# Altium schematic symbol library Capacitors.SchLib: 24 symbols
Pins are listed as number, name and electrical type; pins without a type are passive.

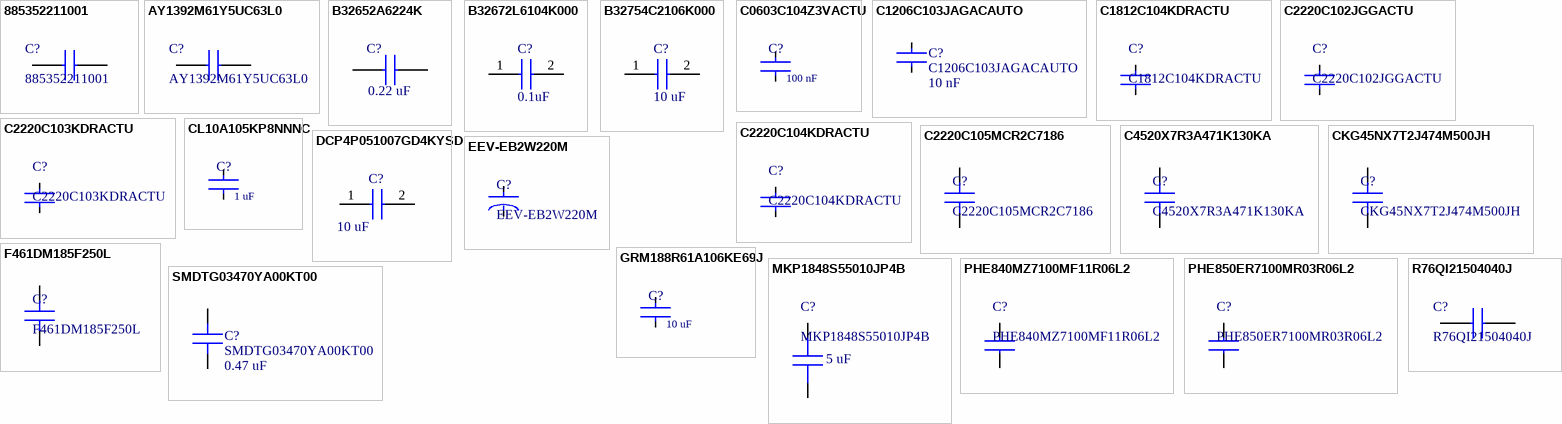
[diagram p0: symbols 885352211001 to SMDTG03470YA00KT00]

## 885352211001
designator C?
CAP CER 470PF 250VAC X7R 1812; Manufacturer: Wurth Electronics; Tolerance: 10%; Ratings: X1,Y2; Manufacturer Part Number: 885352211001; RoHS: Yes; Category: Ceramic Capacitors; Stock 1: 1066; Pricing 1: 1=0,74000, 25=0,73600, 50=0,60400, 100=0,51200, 250=0,43700, 500=0,36700 (USD); Mount: Surface Mount; Case/Package: 1812; Case Code (Imperial): 1812; Case Code (Metric): 4532; Min Operating Temperature: -55°C; Max Operating Temperature: 125°C; Packaging: Cut Tape; Capacitance: 470pF; Length: 0.177inch; Width: 0.125inch; Thickness: 0.071inch; ComponentLink1URL: https://katalog.we-online.de/pbs/datasheet/885352211001.pdf?src-supplier=Digi-Key; ComponentLink1Description: https://katalog.we-online.de/pbs/datasheet/885352211001.pdf?src-supplier=Digi-Key; Supplier 1: Mouser; Supplier 2: Digi-Key; Supplier 3: Digi-Key; Supplier 4: Digi-Key; Supplier Part Number 2: 732-8853522110011CT-ND; Supplier Part Number 3: 732-8853522110011DKR-ND; Supplier Part Number 4: 732-8853522110011TR-ND; Supplier Part Number 1: 710-885352211001
footprint 885352211001 (Multilayer Ceramic Capacitors MLCC - SMD/SMT WCAP-CSSA X&Y Safety 470pF 5kV 10% 1812)
pins: 1, 2

## AY1392M61Y5UC63L0
designator C?
Cap Ceramic 0.0039uF 1500V Y5U 20% Through Hole 10mm Radial 125°C Bulk; Manufacturer: Vishay; Value: 3.9 nF; Manufacturer Part Number: AY1392M61Y5UC63L0; Stock 1: 472; Pricing 1: 1=0,81000, 10=0,61800, 100=0,44180, 500=0,34200, 1000=0,29450, 2500=0,27550, 5000=0,26125 (USD); Supplier 1: Digi-Key; Supplier 2: Farnell; Supplier 3: Newark; Supplier Part Number 3: 95AC5614; Supplier Part Number 2: 2987310; Supplier Part Number 1: BC5432-ND
footprint AY1392M61Y5UC63L0 (Safety capacitor X-Y 3.9nF AY1392M61Y5UC63L0)
pins: 1, 2

## B32652A6224K
designator C?  Capacitance: 0.22 uF  (hidden comment: B32652A6224K)
Film Capacitors 0.22uF 630volts 5%; Vendor: Epcos; Built_By: EMA_UL_Team; Type: DEV; Voltage Rating AC: 250 VAC; Voltage Rating DC: 630 VDC; Manufacturer_Part_Number: B32652A6224K; Copyright: Copyright (C) 2018 Accelerated Designs. All rights reserved; RefDes: RefDes; Value: Value; Supplier 1: Mouser; Supplier 2: Arrow; Supplier Part Number 2: B32652A6224J189; Supplier Part Number 1: 871-B32652A6224J189
footprint B32652XXXXX (B32652 capacitors TDK EPCOS)
pins: 1, 2

## B32672L6104K000
designator C?  Capacitance: 0.1uF  (hidden comment: B32672L6104K000)
Film Capacitors FILM CAP 0.1uF+/-10% 630VDC LS 22.5mm; Manufacturer_Name: EPCOS; Datasheet Link: https://www.tdk-electronics.tdk.com/inf/20/20/db/fc_2009/MKP_B32671L_672L.pdf; Height: 18mm; Manufacturer_Part_Number: B32672L6104K000; Mouser Part Number: 871-B32672L6104K000; Mouser Price/Stock: https://www.mouser.com/Search/Refine.aspx?Keyword=871-B32672L6104K000; Supplier 1: Mouser; Supplier 2: Mouser; Supplier 3: Digi-Key; Supplier Part Number 1: 871-B32672L6104K000; Supplier Part Number 2: 871-B32672L6104K; Supplier Part Number 3: 495-76525-ND
footprint B32672L6104K000
pins: 1, 2

## B32754C2106K000
designator C?  Capacitance: 10 uF  (hidden comment: B32754C2106K000)
Film Capacitors 10.0uF 500VDC 10% MPP L/S=27.5mm; Manufacturer_Name: EPCOS; Manufacturer_Part_Number: B32794D2106K000; Datasheet Link: https://componentsearchengine.com/Datasheets/1/B32794D2106K000.pdf; Height: 32mm; Mouser Part Number: 871-B32794D2106K000; Mouser Price/Stock: https://www.mouser.com/Search/Refine.aspx?Keyword=871-B32794D2106K000; Voltage Rating DC: 500 VDC; Supplier 1: Digi-Key; Supplier 2: Avnet; Supplier 3: Mouser; Supplier 4: Newark; Supplier Part Number 1: 495-76101-ND; Supplier Part Number 2: B32754C2106K; Supplier Part Number 3: 871-B32754C2106K000; Supplier Part Number 4: 65AC0853
footprint B32794D2106K000
pins: 1, 2

## C0603C104Z3VACTU
designator C?  (value not drawn)
KEMET - C0603C104Z3VACTU - Multilayer Ceramic Capacitor, C Series, 0.1 - F, +80%, -20%, Y5V, 25 V, 0603 [1608 Metric] RoHS Compliant: Yes; Capacitance: 100nF; Tolerance: 80%; Voltage Rating: 25V; Dissipation Factor: 7%; Supplier 1: Digi-Key; Manufacturer: KEMET; Manufacturer Part Number: C0603C104Z3VACTU; RoHS: Yes; Category: Ceramic Capacitors; Stock 1: 1499442; Pricing 1: 1=0.10000, 10=0.03200, 100=0.01430, 500=0.01020, 1000=0.00802 (USD); Mount: Surface Mount,PCB; Case/Package: 0603; Number of Pins: 2; Case Code (Metric): 1608; Case Code (Imperial): 0603; Dielectric Material: Ceramic; Min Operating Temperature: -30°C; Max Operating Temperature: 85°C; Packaging: Tape and Reel; Voltage Rating (DC): 25V; Package Quantity: 1; Dielectric: Y5V; Termination: SMD/SMT; Voltage: 25V; Length: 1.6mm; Height: 0.8mm; Width: 0.031inch; Thickness: 0.034inch; Lead Pitch: 0.7mm; Depth: 0.8mm; Radiation Hardening: No; REACH SVHC: No SVHC; Lead Free: Lead Free; ComponentLink1URL: https://datasheet.ciiva.com/7823/1470417-7823994.pdf?src-supplier=Element14; ComponentLink1Description: https://datasheet.ciiva.com/7823/1470417-7823994.pdf?src-supplier=Element14; ComponentLink2URL: https://datasheet.ciiva.com/46443/1828802-46443708.pdf?src-supplier=Element14; ComponentLink2Description: https://datasheet.ciiva.com/46443/1828802-46443708.pdf?src-supplier=Element14; ComponentLink3URL: https://datasheet.ciiva.com/46443/1828802-46443709.pdf?src-supplier=Element14; ComponentLink3Description: https://datasheet.ciiva.com/46443/1828802-46443709.pdf?src-supplier=Element14; ComponentLink4URL: https://datasheet.ciiva.com/14589/70095383-14589007.pdf?src-supplier=Allied+Electronics; ComponentLink4Description: https://datasheet.ciiva.com/14589/70095383-14589007.pdf?src-supplier=Allied+Electronics; Supplier Part Number 1: 399-1100-1-ND
footprint C0603C104Z3VACTU (CAP CER 0.1UF 25V Y5V 0603)
pins: 1, 2
text: 100 nF

## C1206C103JAGACAUTO
designator C?  value 10 nF
Multilayer Ceramic Capacitors MLCC - SMD/SMT 250V 0.01uF C0G 1206 5% AEC-Q200; Manufacturer: KEMET; Temperature Coefficient: 15%; Automotive Grade: Grade 0; Tolerance: 0.05; Temperature Range High: +150°C; Package: C1206C-EB; Voltage Rating: 250 V; Device Class L1: Passive Components; Temperature: -55°C to +150°C; Manufacturer Part Number: C1206C103JAGACAUTO; Device Class L2: Capacitors; Temperature Characteristic: C0G; Octopart: https://octopart.com/c1206c103jagac7210-kemet-105793262; Temperature Range Low: -55°C; Height: 0.88mm; Lead Free: Yes; Mouser Description: Multilayer Ceramic Capacitors MLCC - SMD/SMT 250volts 10nF 5% C0G; Ipc Land Pattern Name: CAPC320160X78; RoHS: TRUE; Device Class L3: Ceramic Capacitors; Capacitance: 10 nF; Material: Ceramic; Automotive: Yes; Category: Cap; ComponentLink2URL: https://api.kemet.com/component-edge/download/specsheet/C1206C103JAGACAUTO.pdf; ComponentLink2Description: Datasheet; Supplier 1: Digi-Key; Supplier Part Number 1: 399-11903-1-ND
footprint FP-C1206C-EB-MFG
pins: 1, 2

## C1812C104KDRACTU
designator C?
Cap Ceramic 0.1uF 1000V X7R 10% Pad SMD 1812 125C Automotive Medical T/R; Manufacturer: KEMET; Capacitance: 100nF; Voltage Rating: 1kV; Manufacturer Part Number: C1812C104KDRACTU; RoHS: Yes; Category: Ceramic Capacitors; Stock 1: 86199; Pricing 1: 1=0,90000, 10=0,66100, 50=0,52880, 100=0,45330, 500=0,35888 (USD); Mount: Surface Mount; Case/Package: 1812; Case Code (Imperial): 1812; Case Code (Metric): 4532; Dielectric Material: Ceramic; Contact Plating: Tin,Matte; Min Operating Temperature: -55°C; Max Operating Temperature: 125°C; Packaging: Tape and Reel; Voltage Rating (DC): 1kV; Package Quantity: 1; Dielectric: X7R; Tolerance: 10%; Termination: SMD/SMT; Length: 4.5mm; Width: 0.126inch; Thickness: 0.073inch; Depth: 3.2mm; REACH SVHC: No SVHC; ComponentLink1URL: http://components.arrow.com/part/dataview/0323_05915259?src-supplier=Arrow+Europe; ComponentLink1Description: http://components.arrow.com/part/dataview/0323_05915259?src-supplier=Arrow+Europe; ComponentLink2URL: http://www.mouser.com/ds/2/212/KEM_C1010_X7R_HV_SMD-1102742.pdf?src-supplier=Mouser; ComponentLink2Description: http://www.mouser.com/ds/2/212/KEM_C1010_X7R_HV_SMD-1102742.pdf?src-supplier=Mouser; ComponentLink3URL: https://api.kemet.com/component-edge/download/specsheet/C1812C104KDRAC7800.pdf?src-supplier=Digi-Key; ComponentLink3Description: https://api.kemet.com/component-edge/download/specsheet/C1812C104KDRAC7800.pdf?src-supplier=Digi-Key; ComponentLink4URL: http://www.farnell.com/datasheets/2065018.pdf?src-supplier=Element14; ComponentLink4Description: http://www.farnell.com/datasheets/2065018.pdf?src-supplier=Element14; ComponentLink5URL: http://www.farnell.com/datasheets/2746125.pdf?src-supplier=Newark; ComponentLink5Description: http://www.farnell.com/datasheets/2746125.pdf?src-supplier=Newark; ComponentLink6URL: https://search.kemet.com/component-edge/download/specsheet/C1812C104KDRAC7800.pdf?src-supplier=Digi-Key; ComponentLink6Description: https://search.kemet.com/component-edge/download/specsheet/C1812C104KDRAC7800.pdf?src-supplier=Digi-Key; Supplier 1: Digi-Key; Supplier 2: Digi-Key; Supplier 3: Digi-Key; Supplier 4: RSComponents; Supplier 5: RSComponents; Supplier 6: Newark; Supplier 7: Newark; Supplier 8: Mouser; Supplier 9: Arrow; Supplier 10: Farnell; Supplier Part Number 10: 2581115; Supplier Part Number 9: C1812C104KDRACTU; Supplier Part Number 8: 80-C1812C104KDRACTU; Supplier Part Number 7: 32X9095; Supplier Part Number 6: 96Y7365; Supplier Part Number 5: 1464356; Supplier Part Number 4: 1464208; Supplier Part Number 3: 399-9854-2-ND; Supplier Part Number 2: 399-9854-6-ND; Supplier Part Number 1: 399-9854-1-ND
footprint C_1812_L_C1812C104KDRAC7800 (Capacitor 1812 package (Density Least) C1812C104KDRAC7800)
footprint C_1812_M_C1812C104KDRAC7800 (Capacitor 1812 package (Density Most) C1812C104KDRAC7800)
footprint C_1812_N_C1812C104KDRAC7800 (Capacitor 1812 package (Density Nominal) C1812C104KDRAC7800)
pins: 1, 2

## C2220C102JGGACTU
designator C?
KEMET - C2220C102JGGACTU - KONDENSATOR 1000PF 2 KV 5% C0G/NP0 2220; Dielectric Material: Ceramic; Voltage Rating (DC): 2kV; Dielectric: C0G; Temperature Coefficient: 30ppm/°C; Capacitance: 1nF; Manufacturer: KEMET; Manufacturer Part Number: C2220C102JGGACTU; RoHS: Yes; Category: Ceramic Capacitors; Stock 1: 706; Pricing 1: 1=4,95000, 10=4,45600, 50=3,86220, 100=3,36710, 500=2,77292 (USD); Mount: Surface Mount; Case/Package: 2220; Case Code (Imperial): 2220; Case Code (Metric): 5750; Min Operating Temperature: -55°C; Max Operating Temperature: 125°C; Tolerance: 5%; Voltage Rating: 2kV; Packaging: Cut Tape; Package Quantity: 1; Length: 0.224inch; Thickness: 0.071inch; Depth: 5mm; Width: 0.197inch; Lead Free: Lead Free; REACH SVHC: No SVHC; ComponentLink1URL: https://datasheet.ciiva.com/5904/1698768-5904864.pdf?src-supplier=Farnell; ComponentLink1Description: https://datasheet.ciiva.com/5904/1698768-5904864.pdf?src-supplier=Farnell; ComponentLink2URL: https://datasheet.ciiva.com/7807/1698768-7807429.pdf?src-supplier=Element14; ComponentLink2Description: https://datasheet.ciiva.com/7807/1698768-7807429.pdf?src-supplier=Element14; ComponentLink3URL: https://datasheet.ciiva.com/7807/1698768-7807430.pdf?src-supplier=Element14; ComponentLink3Description: https://datasheet.ciiva.com/7807/1698768-7807430.pdf?src-supplier=Element14; Supplier 1: Digi-Key; Supplier 2: Digi-Key; Supplier 3: Newark; Supplier 4: Mouser; Supplier 5: Arrow; Supplier 6: Newark; Supplier 7: Farnell; Supplier Part Number 7: 1702176; Supplier Part Number 6: 67R5592; Supplier Part Number 5: C2220C102JGGACTU; Supplier Part Number 4: 80-C2220C102JGG; Supplier Part Number 3: 08R5595; Supplier Part Number 2: 399-7308-6-ND; Supplier Part Number 1: 399-7308-1-ND
footprint C_2220_L_C2220C102JGGACTU (Capacitor 2220 package (Density Least) C2220C102JGGACTU)
footprint C_2220_M_C2220C102JGGACTU (Capacitor 2220 package (Density Nominal) C2220C102JGGACTU)
footprint C_2220_N_C2220C102JGGACTU (Capacitor 2220 package (Density Nominal) C2220C102JGGACTU)
pins: 1, 2

## C2220C103KDRACTU
designator C?
Cap Ceramic 0.01uF 1000V X7R 10% SMD 2220 125C Plastic T/R; Manufacturer: KEMET; Capacitance: 10nF; Voltage Rating: 1kV; Manufacturer Part Number: C2220C103KDRACTU; RoHS: Yes; Category: Ceramic Capacitors; Stock 1: 4957; Pricing 1: 1=4,39000, 10=3,54400, 50=3,04760, 100=2,76400, 500=2,05532 (USD); Mount: Surface Mount; Case/Package: 2220; Case Code (Imperial): 2220; Case Code (Metric): 5750; Dielectric Material: Ceramic; Min Operating Temperature: -55°C; Max Operating Temperature: 125°C; Dielectric: X7R; Package Quantity: 1; Tolerance: 10%; Packaging: Cut Tape; Voltage Rating (DC): 1kV; Length: 0.224inch; Height: 1.4mm; Thickness: 0.061inch; Depth: 5mm; Width: 0.197inch; REACH SVHC: No SVHC; ComponentLink1URL: https://datasheet.ciiva.com/7807/1499186-7807431.pdf?src-supplier=Element14; ComponentLink1Description: https://datasheet.ciiva.com/7807/1499186-7807431.pdf?src-supplier=Element14; ComponentLink2URL: https://datasheet.ciiva.com/7807/1499186-7807432.pdf?src-supplier=Element14; ComponentLink2Description: https://datasheet.ciiva.com/7807/1499186-7807432.pdf?src-supplier=Element14; Supplier 1: Digi-Key; Supplier 2: Digi-Key; Supplier 3: Digi-Key; Supplier 4: Newark; Supplier 5: Mouser; Supplier 6: Arrow; Supplier 7: Farnell; Supplier Part Number 7: 1702182; Supplier Part Number 6: C2220C103KDRACTU; Supplier Part Number 5: 80-C2220C103KDR; Supplier Part Number 4: 08R5596; Supplier Part Number 3: 399-7309-2-ND; Supplier Part Number 2: 399-7309-6-ND; Supplier Part Number 1: 399-7309-1-ND
footprint C_2220_L_C2220C103KDRACTU (Capacitor 2220 package (Density Least) C2220C103KDRACTU)
footprint C_2220_M_C2220C103KDRACTU (Capacitor 2220 package (Density Nominal) C2220C103KDRACTU)
footprint C_2220_N_C2220C103KDRACTU (Capacitor 2220 package (Density Nominal) C2220C103KDRACTU)
pins: 1, 2

## C2220C104KDRACTU
designator C?
CAP CER 0.1UF 1KV X7R 2220; Manufacturer: KEMET; Dielectric Material: Ceramic; Capacitance: 100nF; Tolerance: 10%; Manufacturer Part Number: C2220C104KDRACTU; RoHS: Yes; Category: Ceramic Capacitors; Stock 1: 1165; Pricing 1: 1=1,15000, 10=0,90600, 50=0,78500, 100=0,67940 (USD); Mount: Surface Mount; Case/Package: 2220; Case Code (Metric): 5750; Case Code (Imperial): 2220; Min Operating Temperature: -55°C; Max Operating Temperature: 125°C; Termination: SMD/SMT; Package Quantity: 500; Packaging: Tape and Reel; Voltage Rating: 1kV; Voltage Rating (DC): 1kV; Dielectric: X7R; Length: 0.224inch; Thickness: 0.087inch; Width: 0.197inch; ComponentLink1URL: http://www.farnell.com/datasheets/2316241.pdf?src-supplier=Farnell; ComponentLink1Description: http://www.farnell.com/datasheets/2316241.pdf?src-supplier=Farnell; ComponentLink2URL: http://www.mouser.com/ds/2/212/KEM_C1010_X7R_HV_SMD-345925.pdf?src-supplier=Mouser; ComponentLink2Description: http://www.mouser.com/ds/2/212/KEM_C1010_X7R_HV_SMD-345925.pdf?src-supplier=Mouser; ComponentLink3URL: http://www.kemet.com/docfinder?Partnumber=C2220C104KDRACTU&src-supplier=Digi-Key; ComponentLink3Description: http://www.kemet.com/docfinder?Partnumber=C2220C104KDRACTU&src-supplier=Digi-Key; ComponentLink4URL: https://api.kemet.com/component-edge/download/datasheet/C2220C104KDRACTU.pdf?src-supplier=Digi-Key; ComponentLink4Description: https://api.kemet.com/component-edge/download/datasheet/C2220C104KDRACTU.pdf?src-supplier=Digi-Key; ComponentLink5URL: http://www.kemet.com/Lists/ProductCatalog/Attachments/53/KEM_C1002_X7R_SMD.pdf?src-supplier=Avnet; ComponentLink5Description: http://www.kemet.com/Lists/ProductCatalog/Attachments/53/KEM_C1002_X7R_SMD.pdf?src-supplier=Avnet; Supplier 1: Digi-Key; Supplier 2: Digi-Key; Supplier 3: Digi-Key; Supplier 4: Avnet; Supplier 5: Mouser; Supplier 6: Newark; Supplier 7: Arrow; Supplier 8: Farnell; Supplier Part Number 1: 399-10490-1-ND; Supplier Part Number 2: 399-10490-6-ND; Supplier Part Number 3: 399-10490-2-ND; Supplier Part Number 4: C2220C104KDRACTU; Supplier Part Number 5: 80-C2220C104KDR; Supplier Part Number 6: 05AC8309; Supplier Part Number 7: C2220C104KDRACTU; Supplier Part Number 8: 2676644
footprint C_2220_M_C2220C104KDRACTU (Capacitor 1812 package (Density Most) C1812C104KDRAC7800)
footprint C_2220_N_C2220C104KDRACTU (Capacitor 1812 package (Density Nominal) C1812C104KDRAC7800)
footprint C_2220_L_C2220C104KDRACTU (Capacitor 1812 package (Density Least) C1812C104KDRAC7800)
pins: 1, 2

## C2220C105MCR2C7186
designator C?
CAP CER 1UF 500V X7R SMD; Manufacturer: KEMET; Dielectric Material: Ceramic; Voltage Rating (DC): 1kV; Tolerance: 20%; Manufacturer Part Number: C2220C105MCR2C7186; RoHS: Yes; Category: Ceramic Capacitors; Stock 1: 13224; Pricing 1: 1=6,21000, 10=5,51600, 100=4,41270 (USD); Mount: Surface Mount; Case/Package: 2220; Case Code (Imperial): 2220; Case Code (Metric): 5650; Min Operating Temperature: -55°C; Max Operating Temperature: 125°C; Package Quantity: 1; Voltage Rating: 500V; Packaging: Tape and Reel; Capacitance: 1uF; Termination: SMD/SMT; Dielectric: X7R; Length: 6mm; Height: 5mm; Width: 5mm; Thickness: 0.217inch; Depth: 5mm; ComponentLink1URL: https://datasheet.ciiva.com/6256/kem-c1036-x7r-kps-hv-smd-6256381.pdf?src-supplier=Digi-Key; ComponentLink1Description: https://datasheet.ciiva.com/6256/kem-c1036-x7r-kps-hv-smd-6256381.pdf?src-supplier=Digi-Key; ComponentLink2URL: https://datasheet.ciiva.com/6256/kem-c1036-x7r-kps-hv-smd-6256383.pdf?src-supplier=Digi-Key; ComponentLink2Description: https://datasheet.ciiva.com/6256/kem-c1036-x7r-kps-hv-smd-6256383.pdf?src-supplier=Digi-Key; ComponentLink3URL: https://datasheet.ciiva.com/6256/kem-c1036-x7r-kps-hv-smd-6256379.pdf?src-supplier=Digi-Key; ComponentLink3Description: https://datasheet.ciiva.com/6256/kem-c1036-x7r-kps-hv-smd-6256379.pdf?src-supplier=Digi-Key; Supplier 1: Digi-Key; Supplier 2: Digi-Key; Supplier 3: Digi-Key; Supplier 4: Mouser; Supplier 5: Farnell; Supplier Part Number 1: 399-9630-1-ND; Supplier Part Number 2: 399-9630-6-ND; Supplier Part Number 3: 399-9630-2-ND; Supplier Part Number 4: 80-C2220C105MCR2C; Supplier Part Number 5: 2676645
footprint C2220C105MCR2C7186 (MLCC Capacitor 2220 KEMET)
pins: 1, 2

## C4520X7R3A471K130KA
designator C?
CAP CER 470PF 1KV X7R 1808; Manufacturer: TDK; Tolerance: 10%; Manufacturer Part Number: C4520X7R3A471K130KA; RoHS: Yes; Category: Ceramic Capacitors; Stock 1: 355; Pricing 1: 1=0,63000, 10=0,46200, 50=0,36960, 100=0,31680, 500=0,25080 (USD); Mount: Surface Mount; Case/Package: 1808; Number of Pins: 2; Weight: 0.000952oz; Case Code (Metric): 4520; Case Code (Imperial): 1808; Min Operating Temperature: -55°C; Max Operating Temperature: 125°C; Capacitance: 470pF; Voltage Rating (DC): 1kV; Packaging: Tape and Reel; Dielectric: X7R; Termination: SMD/SMT; Voltage Rating: 1kV; Package Quantity: 1; Composition: Ceramic; Length: 4.5mm; Width: 0.079inch; Thickness: 0.059inch; Depth: 2mm; Radiation Hardening: No; REACH SVHC: Unknown; ComponentLink1URL: https://datasheet.ciiva.com/24217/c4520x7r3a471k130ka-265396-24217566.pdf?src-supplier=Mouser; ComponentLink1Description: https://datasheet.ciiva.com/24217/c4520x7r3a471k130ka-265396-24217566.pdf?src-supplier=Mouser; ComponentLink2URL: https://datasheet.ciiva.com/26834/getdatasheetpartid-743674-26834495.pdf?src-supplier=Verical; ComponentLink2Description: https://datasheet.ciiva.com/26834/getdatasheetpartid-743674-26834495.pdf?src-supplier=Verical; ComponentLink3URL: https://datasheet.ciiva.com/6286/mlcc-commercial-highvoltage-en-6286556.pdf?src-supplier=Digi-Key; ComponentLink3Description: https://datasheet.ciiva.com/6286/mlcc-commercial-highvoltage-en-6286556.pdf?src-supplier=Digi-Key; ComponentLink4URL: https://datasheet.ciiva.com/6286/mlcc-commercial-highvoltage-en-6286559.pdf?src-supplier=Digi-Key; ComponentLink4Description: https://datasheet.ciiva.com/6286/mlcc-commercial-highvoltage-en-6286559.pdf?src-supplier=Digi-Key; Supplier 1: Digi-Key; Supplier 2: Digi-Key; Supplier 3: Arrow; Supplier 4: Mouser; Supplier Part Number 1: 445-2383-1-ND; Supplier Part Number 2: 445-2383-6-ND; Supplier Part Number 3: C4520X7R3A471K130KA; Supplier Part Number 4: 810-C4520X7R3A471K
footprint CAPC1808(4520)215_N (Chip Capacitor, Body 4.5x2.0mm, Height 2.15mm, IPC Medium Density)
footprint CAPC1808(4520)215_M (Chip Capacitor, Body 4.5x2.0mm, Height 2.15mm, IPC Low Density)
footprint CAPC1808(4520)215_L (Chip Capacitor, Body 4.5x2.0mm, Height 2.15mm, IPC High Density)
pins: 1, 2

## CKG45NX7T2J474M500JH
designator C?
TDK         CKG45NX7T2J474M500JH             SMD Multilayer Ceramic Capacitor, 1812 [4532 Metric], 0.47 F, 630 V,  20%, X7T, CKG Series; Capacitance: 470nF; Voltage Rating: 630V; Supplier 1: Digi-Key; Manufacturer: TDK; Manufacturer Part Number: CKG45NX7T2J474M500JH; RoHS: Yes; Category: Ceramic Capacitors; Stock 1: 1650; Pricing 1: 1=4,71000, 10=3,79500, 100=2,96010, 500=2,20110 (USD); Mount: Surface Mount; Case/Package: SMD/SMT; Case Code (Imperial): 1812; Case Code (Metric): 4532; Min Operating Temperature: -55°C; Max Operating Temperature: 125°C; Tolerance: 20%; Packaging: Tape and Reel; Voltage Rating (DC): 630V; Dielectric: X7T; Termination: Metal; Package Quantity: 1; Composition: Ceramic; Length: 5mm; Height: 5mm; Width: 0.138inch; Thickness: 0.217inch; Depth: 3.5mm; REACH SVHC: No SVHC; ComponentLink1URL: https://datasheet.ciiva.com/24221/ckg45nx7t2j474m500jh-24221101.pdf?src-supplier=Mouser; ComponentLink1Description: https://datasheet.ciiva.com/24221/ckg45nx7t2j474m500jh-24221101.pdf?src-supplier=Mouser; ComponentLink2URL: https://datasheet.ciiva.com/6253/mlcc-commercial-megacap-en-6253704.pdf?src-supplier=Digi-Key; ComponentLink2Description: https://datasheet.ciiva.com/6253/mlcc-commercial-megacap-en-6253704.pdf?src-supplier=Digi-Key; ComponentLink3URL: https://datasheet.ciiva.com/6253/mlcc-commercial-megacap-en-6253702.pdf?src-supplier=Digi-Key; ComponentLink3Description: https://datasheet.ciiva.com/6253/mlcc-commercial-megacap-en-6253702.pdf?src-supplier=Digi-Key; Supplier Part Number 1: 445-7101-1-ND
footprint C_1812_CKG45NX7T2J474M500JH
pins: 1, 2

## CL10A105KP8NNNC
designator C?  (value not drawn)
SAMSUNG ELECTRO-MECHANICS - CL10A105KP8NNNC. - CAP, 1UF, 10V, MLCC, 0603; Dielectric: X5R; Tolerance: 10%; Supplier 1: Digi-Key; Manufacturer: Samsung; Manufacturer Part Number: CL10A105KP8NNNC; RoHS: Yes; Category: Ceramic Capacitors; Stock 1: 1037826; Pricing 1: 1=0.10000, 10=0.04000, 100=0.01770, 500=0.01266, 1000=0.00995 (USD); Mount: Surface Mount; Case/Package: 0603; Case Code (Metric): 1608; Case Code (Imperial): 0603; Contact Plating: Tin; Min Operating Temperature: -55°C; Max Operating Temperature: 85°C; Packaging: Tape and Reel; Package Quantity: 1; Capacitance: 1uF; Voltage Rating: 10V; Voltage: 10V; Length: 1.6mm; Height: 0.8mm; Width: 0.031inch; Thickness: 0.035inch; Depth: 0.8mm; Radiation Hardening: No; ComponentLink1URL: https://datasheet.ciiva.com/15195/getdatasheetpartid-358616-15195708.pdf?src-supplier=Verical; ComponentLink1Description: https://datasheet.ciiva.com/15195/getdatasheetpartid-358616-15195708.pdf?src-supplier=Verical; ComponentLink2URL: https://datasheet.ciiva.com/16358/cl05b104kq5nnnc-16358431.pdf?src-supplier=Future+Electronics; ComponentLink2Description: https://datasheet.ciiva.com/16358/cl05b104kq5nnnc-16358431.pdf?src-supplier=Future+Electronics; Supplier Part Number 1: 1276-1182-1-ND
footprint CL10A105KP8NNNC (CAP CER 1UF 10V X5R 0603)
pins: 1, 2
text: 1 uF

## DCP4P051007GD4KYSD
designator C?  Capacitance: 10 uF  (hidden comment: DCP4P051007GD4KYSD)
Film Capacitors 10uF 1100V 10% 4LD 20x39.5x41.5 PCM37.5 WIMA; Voltage Rating DC: 1.1 kVDC; ESR: 7.2 mOhm; Dielectric: Polypropylene (PP); Manufacturer: WIMA; Product Category: Film Capacitor; Tolerance: 10 %; Packaging: Bulk; Lead Spacing: 37.5 mm; Length: 41.5 mm; Width: 20 mm; Height: 39.5 mm; Lead Style: Straight; Supplier 1: Mouser; Supplier Part Number 1: 505-DCP4-10/1100/10
footprint DCP4P051007G - 4 Pin (Film Capacitors 10uF 1100V 10% 4LD 20x39.5x41.5 PCM37.5 - 4 Pin)
pins: 1, 2

## EEV-EB2W220M
designator C?
CAP, ALU ELEC, 22UF, 450V, SMD; Manufacturer: Panasonic; Dielectric Material: Aluminium; Tolerance: 20%; Ripple Current: 560mA; Life (Hours): 5000Hour; Leakage Current: 604uA; Lead Length: 6.7mm; Manufacturer Part Number: EEV-EB2W220M; RoHS: Yes; Category: Aluminum Electrolytic Capacitors; Stock 1: 806; Pricing 1: 1=3,73000, 10=3,00800 (USD); Mount: Surface Mount,PCB; Case/Package: Radial; Number of Pins: 21; Min Operating Temperature: -25°C; Max Operating Temperature: 105°C; Capacitance: 22uF; Packaging: Tape and Reel; Voltage Rating: 450V; Voltage Rating (DC): 450V; Termination: SMD/SMT; Package Quantity: 1; Voltage: 450V; Ripple Current (AC): 560mA; Diameter: 18mm; Length: 21.5mm; Height: 21.5mm; Height - Seated (Max): 0.846inch; Lead Pitch: 6.7mm; Width: 1.2mm; Radiation Hardening: No; REACH SVHC: No SVHC; Lead Free: Lead Free; ComponentLink1URL: https://datasheet.ciiva.com/94/aba0000ce11-94804.pdf?src-supplier=Digi-Key; ComponentLink1Description: https://datasheet.ciiva.com/94/aba0000ce11-94804.pdf?src-supplier=Digi-Key; ComponentLink2URL: https://datasheet.ciiva.com/94/aba0000ce11-94805.pdf?src-supplier=Digi-Key; ComponentLink2Description: https://datasheet.ciiva.com/94/aba0000ce11-94805.pdf?src-supplier=Digi-Key; ComponentLink3URL: https://datasheet.ciiva.com/26823/getdatasheetpartid-52298-26823205.pdf?src-supplier=Verical; ComponentLink3Description: https://datasheet.ciiva.com/26823/getdatasheetpartid-52298-26823205.pdf?src-supplier=Verical; ComponentLink4URL: https://datasheet.ciiva.com/94/aba0000ce11-94806.pdf?src-supplier=Digi-Key; ComponentLink4Description: https://datasheet.ciiva.com/94/aba0000ce11-94806.pdf?src-supplier=Digi-Key; ComponentLink5URL: https://datasheet.ciiva.com/14594/70257799-14594134.pdf?src-supplier=Allied+Electronics; ComponentLink5Description: https://datasheet.ciiva.com/14594/70257799-14594134.pdf?src-supplier=Allied+Electronics; ComponentLink6URL: https://datasheet.ciiva.com/8081/aba0000ce11-8081608.pdf?src-supplier=Element14; ComponentLink6Description: https://datasheet.ciiva.com/8081/aba0000ce11-8081608.pdf?src-supplier=Element14; ComponentLink7URL: https://datasheet.ciiva.com/46379/1678957-46379208.pdf?src-supplier=Element14; ComponentLink7Description: https://datasheet.ciiva.com/46379/1678957-46379208.pdf?src-supplier=Element14; ComponentLink8URL: https://datasheet.ciiva.com/14603/70257799-14603849.pdf?src-supplier=Allied+Electronics; ComponentLink8Description: https://datasheet.ciiva.com/14603/70257799-14603849.pdf?src-supplier=Allied+Electronics; ComponentLink9URL: https://datasheet.ciiva.com/31418/1678957-31418299.pdf?src-supplier=Farnell; ComponentLink9Description: https://datasheet.ciiva.com/31418/1678957-31418299.pdf?src-supplier=Farnell; ComponentLink10URL: https://datasheet.ciiva.com/46372/1678957-46372111.pdf?src-supplier=Element14; ComponentLink10Description: https://datasheet.ciiva.com/46372/1678957-46372111.pdf?src-supplier=Element14; Supplier 1: Digi-Key; Supplier 2: Digi-Key; Supplier 3: Digi-Key; Supplier 4: Newark; Supplier 5: Mouser; Supplier 6: Farnell; Supplier Part Number 6: 2326352; Supplier Part Number 5: 667-EEV-EB2W220M; Supplier Part Number 4: 85Y5181; Supplier Part Number 3: PCE3598TR-ND; Supplier Part Number 2: PCE3598DKR-ND; Supplier Part Number 1: PCE3598CT-ND
footprint EEV-EB2W220M (Cap Aluminum 22uF 450V 20% (18 X 21.5mm) SMD 560mA 5000 hr 105°C T/R)
pins: 1, 2

## F461DM185F250L
designator C?
Film Capacitors 250V 1.8uF 1%; Manufacturer: KEMET; Dielectric: PP; Voltage Rating (AC): 160V; Lead Diameter: 0.8mm; Supplier 1: Mouser; Manufacturer Part Number: F461DM185F250L; RoHS: Yes; Category: Film Capacitors; Stock 1: 114; Pricing 1: 1=2,81000, 10=2,23000, 100=1,61000, 400=1,10000, 1000=0,96000, 2400=0,89000 (USD); Min Operating Temperature: -55°C; Max Operating Temperature: 105°C; Termination: Radial; Capacitance: 1.8uF; Package Quantity: 200; Voltage Rating: 250V; Voltage Rating (DC): 250V; Tolerance: 1%; Packaging: Tape and Reel; Length: 26mm; Height: 18.5mm; Lead Pitch: 22.5mm; Width: 9mm; ComponentLink1URL: https://datasheet.ciiva.com/13391/kem-f3028-f461-464-534103-13391502.pdf?src-supplier=Mouser; ComponentLink1Description: https://datasheet.ciiva.com/13391/kem-f3028-f461-464-534103-13391502.pdf?src-supplier=Mouser; Supplier Part Number 1: 80-F461DM185F250L
footprint F461DM185F250L (Film Capacitors 250V 1.8uF 1%)
pins: 1, 2

## GRM188R61A106KE69J
designator C?  (value not drawn)
CAP CER 10UF 10V X5R 0603; Manufacturer: Murata; Tolerance: 10%; Supplier 1: Digi-Key; Manufacturer Part Number: GRM188R61A106KE69J; RoHS: No; Category: Ceramic Capacitors; Stock 1: 104563; Pricing 1: 1=0.18000, 10=0.12500, 100=0.06350, 500=0.04342, 1000=0.03841, 2500=0.03674, 5000=0.03340 (USD); Voltage Rating (DC): 10V; Dielectric: X5R; Capacitance: 10uF; Length: 1.6mm; Width: 800um; Thickness: 800um; ComponentLink1URL: http://search.murata.co.jp/Ceramy/image/img/A01X/G101/ENG/GRM188R61A106KE69-01.pdf?src-supplier=Digi-Key; ComponentLink1Description: http://search.murata.co.jp/Ceramy/image/img/A01X/G101/ENG/GRM188R61A106KE69-01.pdf?src-supplier=Digi-Key; Supplier Part Number 1: 490-14372-1-ND
footprint GRM188R61A106KE69J (CAP CER 10UF 10V X5R 0603)
pins: 1, 2
text: 10 uF

## MKP1848S55010JP4B
designator C?  Capacitance: 5 uF
Film Capacitors 5uF 5% 1000volts 4pins 37.5mm LS; Manufacturer: Vishay; Voltage Rating DC: 1000 V; ESR: 11.5 mOhm; Tolerance: 5 %; Number of Pins: 4; Supplier 1: Mouser; Supplier Part Number 1: 75-MKP1848S55010JP4B
footprint MKP1848S55010JP4B (Film Capacitors 5uF 5% 1000volts 4pins 37.5mm LS)
pins: 1, 2

## PHE840MZ7100MF11R06L2
designator C?
CAP FILM 1UF 20% 760VDC RADIAL; Manufacturer: KEMET; Dielectric Material: PP; Voltage: 760V; Dissipation Factor: 0.4%; Voltage Rating (AC): 280V; Lead Length: 30mm; Lead Diameter: 0.8mm; Manufacturer Part Number: PHE840MZ7100MF11R06L2; RoHS: Yes; Category: Film Capacitors; Stock 1: 496; Pricing 1: 1=2,83000, 10=2,28500, 50=1,99440, 100=1,74500, 500=1,32954, 1000=1,16335, 2500=1,12180, 5000=1,09338 (USD); Mount: Through Hole; Case/Package: Radial; Number of Pins: 2; Min Operating Temperature: -55°C; Max Operating Temperature: 105°C; Dielectric: PP; Termination: Radial; Capacitance: 1uF; Tolerance: 20%; Packaging: Tray; Package Quantity: 216; Voltage Rating (DC): 760V; Length: 31.5mm; Height: 20.5mm; Lead Pitch: 27.5mm; Height - Seated (Max): 0.807inch; Depth: 10.5mm; Width: 0.413inch; Radiation Hardening: No; ComponentLink1URL: https://datasheet.ciiva.com/241/phe840m20series-241827.pdf?src-supplier=Digi-Key; ComponentLink1Description: https://datasheet.ciiva.com/241/phe840m20series-241827.pdf?src-supplier=Digi-Key; ComponentLink2URL: https://datasheet.ciiva.com/17239/datasheetpn-f840fe105m275c-17239253.pdf?src-supplier=Avnet+Europe; ComponentLink2Description: https://datasheet.ciiva.com/17239/datasheetpn-f840fe105m275c-17239253.pdf?src-supplier=Avnet+Europe; ComponentLink3URL: https://datasheet.ciiva.com/14589/70096376-14589271.pdf?src-supplier=Allied+Electronics; ComponentLink3Description: https://datasheet.ciiva.com/14589/70096376-14589271.pdf?src-supplier=Allied+Electronics; ComponentLink4URL: https://datasheet.ciiva.com/13403/f3294-phe840m-540905-13403690.pdf?src-supplier=Mouser; ComponentLink4Description: https://datasheet.ciiva.com/13403/f3294-phe840m-540905-13403690.pdf?src-supplier=Mouser; Supplier 1: Digi-Key; Supplier 2: Newark; Supplier 3: Arrow; Supplier 4: Mouser; Supplier 5: Allied Electronics; Supplier Part Number 5: 70096381; Supplier Part Number 4: 80-PHE840MZ7100MF11R; Supplier Part Number 3: PHE840MZ7100MF11R06L2; Supplier Part Number 2: 61M2385; Supplier Part Number 1: 399-5431-ND
footprint PHE840MZ7100MF11R06L2 (CAP FILM 1UF 20% 760VDC RADIAL - KEMET)
pins: 1, 2

## PHE850ER7100MR03R06L2
designator C?
CAP FILM 1UF 20% 1.25KVDC RADIAL; Manufacturer: KEMET; Dielectric Material: PP; Voltage Rating (AC): 300V; Voltage Rating (DC): 1.25kV; Lead Diameter: 1mm; Manufacturer Part Number: PHE850ER7100MR03R06L2; RoHS: Yes; Category: Film Capacitors; Stock 1: 10227; Pricing 1: 1=5,26000, 10=4,73700, 50=4,10560, 100=3,57930, 500=2,94768, 1000=2,77038 (USD); Mount: Through Hole; Case/Package: Radial; Min Operating Temperature: -55°C; Max Operating Temperature: 110°C; Dielectric: PP; Termination: Radial; Capacitance: 1uF; Tolerance: 20%; Packaging: Tray; Voltage: 1.25kV; Package Quantity: 91; Voltage Rating: 300V; Length: 41mm; Height: 19mm; Lead Pitch: 37.5mm; Width: 36mm; Height - Seated (Max): 1.417inch; Depth: 19mm; Radiation Hardening: No; Lead Free: Lead Free; ComponentLink1URL: https://datasheet.ciiva.com/11791/0900766b807a221a-11791526.pdf?src-supplier=RSComponents; ComponentLink1Description: https://datasheet.ciiva.com/11791/0900766b807a221a-11791526.pdf?src-supplier=RSComponents; ComponentLink2URL: https://datasheet.ciiva.com/241/f3294-phe850-241880.pdf?src-supplier=Digi-Key; ComponentLink2Description: https://datasheet.ciiva.com/241/f3294-phe850-241880.pdf?src-supplier=Digi-Key; Supplier 1: Digi-Key; Supplier 2: RSComponents; Supplier 3: Mouser; Supplier Part Number 2: 6168017; Supplier Part Number 1: 399-5425-ND; Supplier Part Number 3: 80-PHE850ER7100MR03
footprint PHE850ER7100MR03R06L2 (CAP FILM 1UF 20% 1.25KVDC RADIAL KEMET)
pins: 1, 2

## R76QI21504040J
designator C?
Film Capacitors 1000V .015uF 5% LS=15mm KEMET; Capacitance: 15 nF; Voltage Rating DC: 1000 V; Tolerance: 5 %; Lead Spacing: 15 mm; Height: 11 mm; Width: 5 mm; Length: 18 mm
footprint R76QI21504040J (Film Capacitors 1000V .015uF 5% LS=15mm)
pins: 1, 2

## SMDTG03470YA00KT00
designator C?  Capacitance: 0.47 uF
0.47µF Film Capacitor 200V 400V Polyester, Polyethylene Terephthalate (PET), Metallized 6054 (153137 Metric) WIMA SMDTG03470YA00KT00; Tolerance: ±10%; Voltage Rating (AC): 200 V; Voltage Rating (DC): 400 V; Manufacturer: WIMA; Manufacturer Part Number: SMDTG03470YA00KT00; Dielectric Material: Polyester, Polyethylene Terephthalate (PET), Metallized; Mounting Type: Surface Mount, SMD; Package / Case: 6054 (153137 Metric); Operating Temperature: -55°C ~ 100°C; Supplier 1: Digi-Key; Supplier Part Number 1: 1928-1966-1-ND
footprint 6054 SMDTG03470YA00KT00 (6054 package for SMDTG03470YA00KT00   capacitor)
pins: 1, 2